# Altium integrated library Silicon Labs Clocks and Oscillators.IntLib: 678 symbols (part 40 of 45)
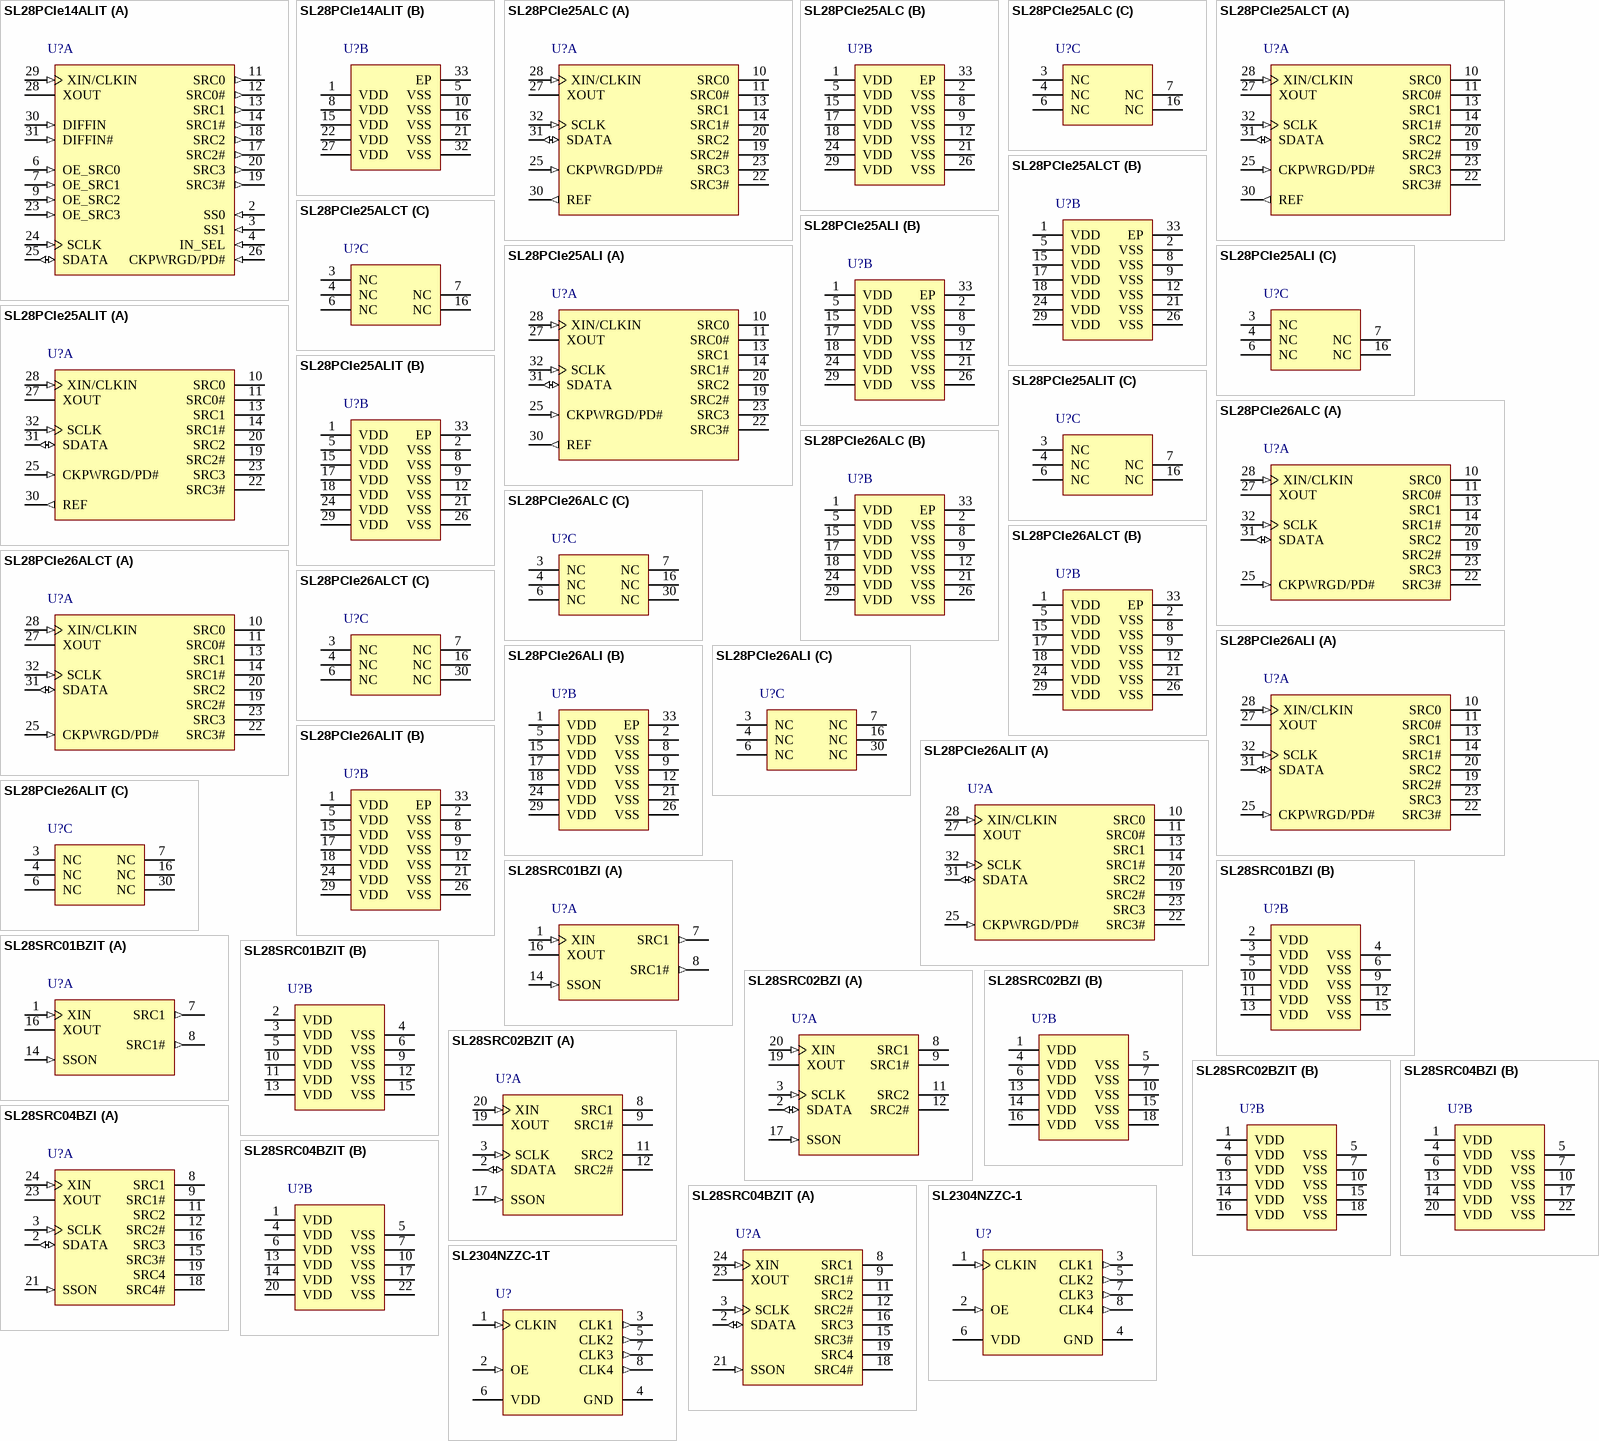
[diagram p83: symbols SL28PCIe14ALIT to SL2304NZZC-1T]

## SL28PCIe26ALI
designator U?
EProClock(R) PCI Express Gen 2 & Gen 3 Generator, 3.3 V, 100 MHz Output, -40 to 85 degC, 32-pin QFN; Manufacturer: Silicon Labs; PartNumber: SL28PCIe26ALI; Output Format: HCSL; Output Frequency (MHz): 100; Reference Inputs: 1; VDD: 3.3 V; Sub-Family: Clock Generators; DatasheetVersion: Rev. AA; PackageReference: QFN-32; PackageDescription: 32-Pin Quad-Flat No-Leads Package, Body 5 x 5 mm, Pitch 0.5 mm; Supplier 1: Digi-Key; Supplier Part Number 1: SL28PCIE26ALI-ND; Supplier 2: Mouser; Supplier Part Number 2: 634-SL28PCIE26ALI; Mounting Technology: Surface Mount; ComponentLink1Description: Manufacturer URL; ComponentLink1URL: http://www.silabs.com/; ComponentLink2Description: Datasheet; ComponentLink2URL: http://www.silabs.com/Support%20Documents/TechnicalDocs/SL28PCIe26.pdf; ComponentLink3Description: Package Specification; ComponentLink3URL: http://www.silabs.com/Support%20Documents/TechnicalDocs/SL28PCIe10.pdf
footprint SLAB-QFN-32-3300x3300TP_B_N (QFN, 32-Leads, Body 5.1x5.1mm, Pitch 0.5mm, Thermal Pad 3.3x3.3mm, IPC Medium Density)
footprint SLAB-QFN-32-3300x3300TP_B_L (QFN, 32-Leads, Body 5.1x5.1mm, Pitch 0.5mm, Thermal Pad 3.3x3.3mm, IPC High Density)
footprint SLAB-QFN-32-3300x3300TP_B_M (QFN, 32-Leads, Body 5.1x5.1mm, Pitch 0.5mm, Thermal Pad 3.3x3.3mm, IPC Low Density)
part A pins: 10 SRC0 (hiz) "100MHz True differential serial reference clock", 11 SRC0# (hiz) "100MHz Complement differential serial reference clock", 13 SRC1 (hiz) "100MHz True differential serial reference clock", 14 SRC1# (hiz) "100MHz Complement differential serial reference clock", 19 SRC2# (hiz) "100MHz Complement differential serial reference clock", 20 SRC2 (hiz) "100MHz True differential serial reference clock", 22 SRC3# (hiz) "100MHz Complement differential serial reference clock", 23 SRC3 (hiz) "100MHz True differential serial reference clock", 25 CKPWRGD/PD# (in) "3.3V LVTTT input pin. When PD# is asserted low, the device will power down.", 27 XOUT "25MHz Crystal output, Float XOUT if using CLKIN (Clock Input)", 28 XIN/CLKIN (in) "25MHz Crystal input or 3.3V, 25MHz Clock Input", 31 SDATA (io) "SMBus compatible SDATA", 32 SCLK (in) "SMBus compatible SCLOCK"
part B pins: 1 VDD (power) "3.3V Power Supply", 2 VSS (power) "Ground", 5 VDD (power) "3.3V Power Supply", 8 VSS (power) "Ground", 9 VSS (power) "Ground", 12 VSS (power) "Ground", 15 VDD (power) "3.3V Power Supply", 17 VDD (power) "3.3V Power Supply", 18 VDD (power) "3.3V Power Supply", 21 VSS (power) "Ground", 24 VDD (power) "3.3V Power Supply", 26 VSS (power) "Ground", 29 VDD (power) "3.3V Power Supply", 33 EP
part C pins: 3 NC "No Connect.", 4 NC "No Connect.", 6 NC "No Connect.", 7 NC "No Connect.", 16 NC "No Connect.", 30 NC "No Connect."

## SL28PCIe26ALIT
designator U?
EProClock(R) PCI Express Gen 2 & Gen 3 Generator, 3.3 V, 100 MHz Output, -40 to 85 degC, 32-pin QFN, Tape and Reel; Manufacturer: Silicon Labs; PartNumber: SL28PCIe26ALIT; Output Format: HCSL; Output Frequency (MHz): 100; Phase Jitter (RMS): 3.1 ps; Reference Inputs: 1; VDD: 3.3 V; Sub-Family: Clock Generators; DatasheetVersion: Rev. AA; PackageReference: QFN-32; PackageDescription: 32-Pin Quad-Flat No-Leads Package, Body 5 x 5 mm, Pitch 0.5 mm; Supplier 1: Digi-Key; Supplier Part Number 1: SL28PCIE26ALIT-ND; Supplier 2: Mouser; Supplier Part Number 2: 634-SL28PCIE26ALIT; Packing: Tape and Reel; Mounting Technology: Surface Mount; ComponentLink1Description: Manufacturer URL; ComponentLink1URL: http://www.silabs.com/; ComponentLink2Description: Datasheet; ComponentLink2URL: http://www.silabs.com/Support%20Documents/TechnicalDocs/SL28PCIe26.pdf; ComponentLink3Description: Package Specification; ComponentLink3URL: http://www.silabs.com/Support%20Documents/TechnicalDocs/SL28PCIe10.pdf
footprint SLAB-QFN-32-3300x3300TP_B_N (QFN, 32-Leads, Body 5.1x5.1mm, Pitch 0.5mm, Thermal Pad 3.3x3.3mm, IPC Medium Density)
footprint SLAB-QFN-32-3300x3300TP_B_L (QFN, 32-Leads, Body 5.1x5.1mm, Pitch 0.5mm, Thermal Pad 3.3x3.3mm, IPC High Density)
footprint SLAB-QFN-32-3300x3300TP_B_M (QFN, 32-Leads, Body 5.1x5.1mm, Pitch 0.5mm, Thermal Pad 3.3x3.3mm, IPC Low Density)
part A pins: 10 SRC0 (hiz) "100MHz True differential serial reference clock", 11 SRC0# (hiz) "100MHz Complement differential serial reference clock", 13 SRC1 (hiz) "100MHz True differential serial reference clock", 14 SRC1# (hiz) "100MHz Complement differential serial reference clock", 19 SRC2# (hiz) "100MHz Complement differential serial reference clock", 20 SRC2 (hiz) "100MHz True differential serial reference clock", 22 SRC3# (hiz) "100MHz Complement differential serial reference clock", 23 SRC3 (hiz) "100MHz True differential serial reference clock", 25 CKPWRGD/PD# (in) "3.3V LVTTT input pin. When PD# is asserted low, the device will power down.", 27 XOUT "25MHz Crystal output, Float XOUT if using CLKIN (Clock Input)", 28 XIN/CLKIN (in) "25MHz Crystal input or 3.3V, 25MHz Clock Input", 31 SDATA (io) "SMBus compatible SDATA", 32 SCLK (in) "SMBus compatible SCLOCK"
part B pins: 1 VDD (power) "3.3V Power Supply", 2 VSS (power) "Ground", 5 VDD (power) "3.3V Power Supply", 8 VSS (power) "Ground", 9 VSS (power) "Ground", 12 VSS (power) "Ground", 15 VDD (power) "3.3V Power Supply", 17 VDD (power) "3.3V Power Supply", 18 VDD (power) "3.3V Power Supply", 21 VSS (power) "Ground", 24 VDD (power) "3.3V Power Supply", 26 VSS (power) "Ground", 29 VDD (power) "3.3V Power Supply", 33 EP
part C pins: 3 NC "No Connect.", 4 NC "No Connect.", 6 NC "No Connect.", 7 NC "No Connect.", 16 NC "No Connect.", 30 NC "No Connect."

## SL28SRC01BZI
designator U?
PCI Express Gen 2 & Gen 3 Clock Generator, 3.3 V, 100 MHz Output, -40 to 85 degC, 16-pin SOP; Manufacturer: Silicon Labs; PartNumber: SL28SRC01BZI; Output Format: HCSL; Output Frequency (MHz): 100; Reference Inputs: 1; VDD: 3.3 V; Sub-Family: Clock Generators; DatasheetVersion: Rev. AA; PackageReference: TSSOP-16; PackageDescription: 16-Pin Thin Shrink Small-Outline Package, Body 5 x 4.4 mm, Pitch 0.65 mm; Supplier 1: Digi-Key; Supplier Part Number 1: SL28SRC01BZI-ND; Supplier 2: Mouser; Supplier Part Number 2: 634-SL28SRC01BZI; Mounting Technology: Surface Mount; Code_JEDEC: MO-153; Code_IPC: J-STD-020C; ComponentLink1Description: Manufacturer URL; ComponentLink1URL: http://www.silabs.com/; ComponentLink2Description: Datasheet; ComponentLink2URL: http://www.silabs.com/Support%20Documents/TechnicalDocs/SL28SRC01.pdf; ComponentLink3Description: Package Specification; ComponentLink3URL: http://www.silabs.com/Support%20Documents/TechnicalDocs/Si53360.pdf
footprint SLAB-TSSOP-16_N (SOP, 16-Leads, Body 5.1x4.5mm, Pitch 0.65mm, IPC Medium Density)
footprint SLAB-TSSOP-16_L (SOP, 16-Leads, Body 5.1x4.5mm, Pitch 0.65mm, IPC High Density)
footprint SLAB-TSSOP-16_M (SOP, 16-Leads, Body 5.1x4.5mm, Pitch 0.65mm, IPC Low Density)
part A pins: 1 XIN (in) "14.318 MHz Crystal input.", 7 SRC1 (out) "100 MHz Differential serial reference clocks.", 8 SRC1# (out) "100 MHz Differential serial reference clocks.", 14 SSON (in) "3.3V LVTTL input for enabling spread spectrum clock 0 = Disable, 1 = Enable (-0.5% SS) Extrenal 10K ohm pull-up or pull-down resistor required", 16 XOUT "14.318 MHz Crystal output."
part B pins: 2 VDD (power) "3.3V power supply", 3 VDD (power) "3.3V power supply", 4 VSS (power) "Ground", 5 VDD (power) "3.3V power supply", 6 VSS (power) "Ground", 9 VSS (power) "Ground", 10 VDD (power) "3.3V power supply", 11 VDD (power) "3.3V power supply", 12 VSS (power) "Ground", 13 VDD (power) "3.3V power supply", 15 VSS (power) "Ground"

## SL28SRC01BZIT
designator U?
PCI Express Gen 2 & Gen 3 Clock Generator, 3.3 V, 100 MHz Output, -40 to 85 degC, 16-pin SOP, Tape and Reel; Manufacturer: Silicon Labs; PartNumber: SL28SRC01BZIT; Output Format: HCSL; Output Frequency (MHz): 100; Phase Jitter (RMS): 1 ps; Reference Inputs: 1; VDD: 3.3 V; Sub-Family: Clock Generators; DatasheetVersion: Rev. AA; PackageReference: TSSOP-16; PackageDescription: 16-Pin Thin Shrink Small-Outline Package, Body 5 x 4.4 mm, Pitch 0.65 mm; Supplier 1: Digi-Key; Supplier Part Number 1: SL28SRC01BZIT-ND; Supplier 2: Mouser; Supplier Part Number 2: 634-SL28SRC01BZIT; Packing: Tape and Reel; Mounting Technology: Surface Mount; Code_JEDEC: MO-153; Code_IPC: J-STD-020C; ComponentLink1Description: Manufacturer URL; ComponentLink1URL: http://www.silabs.com/; ComponentLink2Description: Datasheet; ComponentLink2URL: http://www.silabs.com/Support%20Documents/TechnicalDocs/SL28SRC01.pdf; ComponentLink3Description: Package Specification; ComponentLink3URL: http://www.silabs.com/Support%20Documents/TechnicalDocs/Si53360.pdf
footprint SLAB-TSSOP-16_N (SOP, 16-Leads, Body 5.1x4.5mm, Pitch 0.65mm, IPC Medium Density)
footprint SLAB-TSSOP-16_L (SOP, 16-Leads, Body 5.1x4.5mm, Pitch 0.65mm, IPC High Density)
footprint SLAB-TSSOP-16_M (SOP, 16-Leads, Body 5.1x4.5mm, Pitch 0.65mm, IPC Low Density)
part A pins: 1 XIN (in) "14.318 MHz Crystal input.", 7 SRC1 (out) "100 MHz Differential serial reference clocks.", 8 SRC1# (out) "100 MHz Differential serial reference clocks.", 14 SSON (in) "3.3V LVTTL input for enabling spread spectrum clock 0 = Disable, 1 = Enable (-0.5% SS) Extrenal 10K ohm pull-up or pull-down resistor required", 16 XOUT "14.318 MHz Crystal output."
part B pins: 2 VDD (power) "3.3V power supply", 3 VDD (power) "3.3V power supply", 4 VSS (power) "Ground", 5 VDD (power) "3.3V power supply", 6 VSS (power) "Ground", 9 VSS (power) "Ground", 10 VDD (power) "3.3V power supply", 11 VDD (power) "3.3V power supply", 12 VSS (power) "Ground", 13 VDD (power) "3.3V power supply", 15 VSS (power) "Ground"

## SL28SRC02BZI
designator U?
PCI Express Gen 2 & Gen 3 Clock Generator, 3.3 V, 100 MHz Output, -40 to 85 degC, 20-pin SOP; Manufacturer: Silicon Labs; PartNumber: SL28SRC02BZI; Output Format: HCSL; Output Frequency (MHz): 100; Reference Inputs: 1; VDD: 3.3 V; Sub-Family: Clock Generators; DatasheetVersion: Rev. 1.1; PackageReference: TSSOP-20; PackageDescription: 20-Pin Thin Shrink Small-Outline Package, Body 6.5 x 4.4 mm, Pitch 0.65 mm; Supplier 1: Digi-Key; Supplier Part Number 1: SL28SRC02BZI-ND; Supplier 2: Mouser; Supplier Part Number 2: 634-SL28SRC02BZI; Mounting Technology: Surface Mount; Code_JEDEC: MO-153; ComponentLink1Description: Manufacturer URL; ComponentLink1URL: http://www.silabs.com/; ComponentLink2Description: Datasheet; ComponentLink2URL: http://www.silabs.com/Support%20Documents/TechnicalDocs/SL28SRC02.pdf; ComponentLink3Description: Package Specification; ComponentLink3URL: http://www.silabs.com/Support%20Documents/TechnicalDocs/SL28SRC02.pdf
footprint SLAB-TSSOP-20_A_N (SOP, 20-Leads, Body 6.6x4.5mm, Pitch 0.65mm, IPC Medium Density)
footprint SLAB-TSSOP-20_A_L (SOP, 20-Leads, Body 6.6x4.5mm, Pitch 0.65mm, IPC High Density)
footprint SLAB-TSSOP-20_A_M (SOP, 20-Leads, Body 6.6x4.5mm, Pitch 0.65mm, IPC Low Density)
part A pins: 2 SDATA (io) "SMBus compatible SDATA.", 3 SCLK (in) "SMBus compatible SCLOCK.", 8 SRC1 (hiz) "100 MHz Differential serial reference clocks.", 9 SRC1# (hiz) "100 MHz Differential serial reference clocks.", 11 SRC2 (hiz) "100 MHz Differential serial reference clocks.", 12 SRC2# (hiz) "100 MHz Differential serial reference clocks.", 17 SSON (in) "3.3V LVTTL input for enabling spread spectrum clock 0 = Disable, 1 = Enable (-0.5% SS) External 10K ohm pull-up or pull-down resistor required", 19 XOUT "14.318 MHz Crystal output.", 20 XIN (in) "14.318 MHz Crystal input."
part B pins: 1 VDD (power) "3.3V Power supply", 4 VDD (power) "3.3V power supply", 5 VSS (power) "Ground", 6 VDD (power) "3.3V power supply", 7 VSS (power) "Ground", 10 VSS (power) "Ground", 13 VDD (power) "3.3V power supply", 14 VDD (power) "3.3V power supply", 15 VSS (power) "Ground", 16 VDD (power) "3.3V power supply", 18 VSS (power) "Ground"

## SL28SRC02BZIT
designator U?
PCI Express Gen 2 & Gen 3 Clock Generator, 3.3 V, 100 MHz Output, -40 to 85 degC, 20-pin SOP, Tape and Reel; Manufacturer: Silicon Labs; PartNumber: SL28SRC02BZIT; Output Format: HCSL; Output Frequency (MHz): 100; Phase Jitter (RMS): 1 ps; Reference Inputs: 1; VDD: 3.3 V; Sub-Family: Clock Generators; DatasheetVersion: Rev. 1.1; PackageReference: TSSOP-20; PackageDescription: 20-Pin Thin Shrink Small-Outline Package, Body 6.5 x 4.4 mm, Pitch 0.65 mm; Supplier 1: Digi-Key; Supplier Part Number 1: SL28SRC02BZIT-ND; Supplier 2: Mouser; Supplier Part Number 2: 634-SL28SRC02BZIT; Packing: Tape and Reel; Mounting Technology: Surface Mount; Code_JEDEC: MO-153; ComponentLink1Description: Manufacturer URL; ComponentLink1URL: http://www.silabs.com/; ComponentLink2Description: Datasheet; ComponentLink2URL: http://www.silabs.com/Support%20Documents/TechnicalDocs/SL28SRC02.pdf; ComponentLink3Description: Package Specification; ComponentLink3URL: http://www.silabs.com/Support%20Documents/TechnicalDocs/SL28SRC02.pdf
footprint SLAB-TSSOP-20_A_N (SOP, 20-Leads, Body 6.6x4.5mm, Pitch 0.65mm, IPC Medium Density)
footprint SLAB-TSSOP-20_A_L (SOP, 20-Leads, Body 6.6x4.5mm, Pitch 0.65mm, IPC High Density)
footprint SLAB-TSSOP-20_A_M (SOP, 20-Leads, Body 6.6x4.5mm, Pitch 0.65mm, IPC Low Density)
part A pins: 2 SDATA (io) "SMBus compatible SDATA.", 3 SCLK (in) "SMBus compatible SCLOCK.", 8 SRC1 (hiz) "100 MHz Differential serial reference clocks.", 9 SRC1# (hiz) "100 MHz Differential serial reference clocks.", 11 SRC2 (hiz) "100 MHz Differential serial reference clocks.", 12 SRC2# (hiz) "100 MHz Differential serial reference clocks.", 17 SSON (in) "3.3V LVTTL input for enabling spread spectrum clock 0 = Disable, 1 = Enable (-0.5% SS) External 10K ohm pull-up or pull-down resistor required", 19 XOUT "14.318 MHz Crystal output.", 20 XIN (in) "14.318 MHz Crystal input."
part B pins: 1 VDD (power) "3.3V Power supply", 4 VDD (power) "3.3V power supply", 5 VSS (power) "Ground", 6 VDD (power) "3.3V power supply", 7 VSS (power) "Ground", 10 VSS (power) "Ground", 13 VDD (power) "3.3V power supply", 14 VDD (power) "3.3V power supply", 15 VSS (power) "Ground", 16 VDD (power) "3.3V power supply", 18 VSS (power) "Ground"

## SL28SRC04BZI
designator U?
PCI Express Gen 2 & Gen 3 Clock Generator, 3.3 V, 100 MHz Output, -40 to 85 degC, 24-pin SOP; Manufacturer: Silicon Labs; PartNumber: SL28SRC04BZI; Output Format: HCSL; Output Frequency (MHz): 100; Reference Inputs: 1; VDD: 3.3 V; Sub-Family: Clock Generators; DatasheetVersion: Rev. AA; PackageReference: TSSOP-24; PackageDescription: 24-Pin Thin Shrink Small-Outline Package, Body 7.8 x 4.4 mm, Pitch 0.65 mm; Supplier 1: Digi-Key; Supplier Part Number 1: SL28SRC04BZI-ND; Supplier 2: Mouser; Supplier Part Number 2: 634-SL28SRC04BZI; Mounting Technology: Surface Mount; Code_JEDEC: MO-153; Code_IPC: J-STD-020; ComponentLink1Description: Manufacturer URL; ComponentLink1URL: http://www.silabs.com/; ComponentLink2Description: Datasheet; ComponentLink2URL: http://www.silabs.com/Support%20Documents/TechnicalDocs/SL28SRC04.pdf; ComponentLink3Description: Package Specification; ComponentLink3URL: http://www.silabs.com/Support%20Documents/TechnicalDocs/Si2457-34-15-04D.pdf
footprint SLAB-TSSOP-24_N (SOP, 24-Leads, Body 7.9x4.5mm, Pitch 0.65mm, IPC Medium Density)
footprint SLAB-TSSOP-24_L (SOP, 24-Leads, Body 7.9x4.5mm, Pitch 0.65mm, IPC High Density)
footprint SLAB-TSSOP-24_M (SOP, 24-Leads, Body 7.9x4.5mm, Pitch 0.65mm, IPC Low Density)
part A pins: 2 SDATA (io) "SMBus compatible SDATA.", 3 SCLK (in) "SMBus compatible SCLOCK.", 8 SRC1 (hiz) "100 MHz Differential serial reference clocks.", 9 SRC1# (hiz) "100 MHz Differential serial reference clocks.", 11 SRC2 (hiz) "100 MHz Differential serial reference clocks.", 12 SRC2# (hiz) "100 MHz Differential serial reference clocks.", 15 SRC3# (hiz) "100 MHz Differential serial reference clocks.", 16 SRC3 (hiz) "100 MHz Differential serial reference clocks.", 18 SRC4# (hiz) "100 MHz Differential serial reference clocks.", 19 SRC4 (hiz) "100 MHz Differential serial reference clocks.", 21 SSON (in) "3.3V LVTTL input for enabling spread spectrum clock 0 = Disable, 1 = Enable (-0.5% SS) External 10K ohm pull-up or pull-down resistor required", 23 XOUT "14.318 MHz Crystal output.", 24 XIN (in) "14.318 MHz Crystal input."
part B pins: 1 VDD (power) "3.3V Power supply", 4 VDD (power) "3.3V power supply", 5 VSS (power) "Ground", 6 VDD (power) "3.3V power supply", 7 VSS (power) "Ground", 10 VSS (power) "Ground", 13 VDD (power) "3.3V power supply", 14 VDD (power) "3.3V power supply", 17 VSS (power) "Ground", 20 VDD (power) "3.3V power supply", 22 VSS (power) "Ground"

## SL28SRC04BZIT
designator U?
PCI Express Gen 2 & Gen 3 Clock Generator, 3.3 V, 100 MHz Output, -40 to 85 degC, 24-pin SOP, Tape and Reel; Manufacturer: Silicon Labs; PartNumber: SL28SRC04BZIT; Output Format: HCSL; Output Frequency (MHz): 100; Phase Jitter (RMS): 1 ps; Reference Inputs: 1; VDD: 3.3 V; Sub-Family: Clock Generators; DatasheetVersion: Rev. AA; PackageReference: TSSOP-24; PackageDescription: 24-Pin Thin Shrink Small-Outline Package, Body 7.8 x 4.4 mm, Pitch 0.65 mm; Supplier 1: Digi-Key; Supplier Part Number 1: SL28SRC04BZIT-ND; Supplier 2: Mouser; Supplier Part Number 2: 634-SL28SRC04BZIT; Packing: Tape and Reel; Mounting Technology: Surface Mount; Code_JEDEC: MO-153; Code_IPC: J-STD-020; ComponentLink1Description: Manufacturer URL; ComponentLink1URL: http://www.silabs.com/; ComponentLink2Description: Datasheet; ComponentLink2URL: http://www.silabs.com/Support%20Documents/TechnicalDocs/SL28SRC04.pdf; ComponentLink3Description: Package Specification; ComponentLink3URL: http://www.silabs.com/Support%20Documents/TechnicalDocs/Si2457-34-15-04D.pdf
footprint SLAB-TSSOP-24_N (SOP, 24-Leads, Body 7.9x4.5mm, Pitch 0.65mm, IPC Medium Density)
footprint SLAB-TSSOP-24_L (SOP, 24-Leads, Body 7.9x4.5mm, Pitch 0.65mm, IPC High Density)
footprint SLAB-TSSOP-24_M (SOP, 24-Leads, Body 7.9x4.5mm, Pitch 0.65mm, IPC Low Density)
part A pins: 2 SDATA (io) "SMBus compatible SDATA.", 3 SCLK (in) "SMBus compatible SCLOCK.", 8 SRC1 (hiz) "100 MHz Differential serial reference clocks.", 9 SRC1# (hiz) "100 MHz Differential serial reference clocks.", 11 SRC2 (hiz) "100 MHz Differential serial reference clocks.", 12 SRC2# (hiz) "100 MHz Differential serial reference clocks.", 15 SRC3# (hiz) "100 MHz Differential serial reference clocks.", 16 SRC3 (hiz) "100 MHz Differential serial reference clocks.", 18 SRC4# (hiz) "100 MHz Differential serial reference clocks.", 19 SRC4 (hiz) "100 MHz Differential serial reference clocks.", 21 SSON (in) "3.3V LVTTL input for enabling spread spectrum clock 0 = Disable, 1 = Enable (-0.5% SS) External 10K ohm pull-up or pull-down resistor required", 23 XOUT "14.318 MHz Crystal output.", 24 XIN (in) "14.318 MHz Crystal input."
part B pins: 1 VDD (power) "3.3V Power supply", 4 VDD (power) "3.3V power supply", 5 VSS (power) "Ground", 6 VDD (power) "3.3V power supply", 7 VSS (power) "Ground", 10 VSS (power) "Ground", 13 VDD (power) "3.3V power supply", 14 VDD (power) "3.3V power supply", 17 VSS (power) "Ground", 20 VDD (power) "3.3V power supply", 22 VSS (power) "Ground"

## SL2304NZZC-1
designator U?
Low Jitter and Skew Clock Buffer, DC to 144 MHz, 0 to 70 degC, 8-pin SOP, Tube; Manufacturer: Silicon Labs; PartNumber: SL2304NZZC-1; Frequency (MHz): DC to 140; Output Format: LVCMOS; Sub-Family: Clock Buffers; DatasheetVersion: Rev. 2.1; PackageReference: TSSOP-8; PackageDescription: 8-Pin Thin Shrink Small-Outline Package, Body 4.4 x 3 mm, Pitch 0.65 mm; Supplier 1: Digi-Key; Supplier Part Number 1: SL2304NZZC-1-ND; Supplier 2: Mouser; Supplier Part Number 2: 634-SL2304NZZC-1; Packing: Tube; Mounting Technology: Surface Mount; ComponentLink1Description: Manufacturer URL; ComponentLink1URL: http://www.silabs.com/; ComponentLink2Description: Datasheet; ComponentLink2URL: http://www.silabs.com/Support%20Documents/TechnicalDocs/SL2304NZ.pdf; ComponentLink3Description: Package Specification; ComponentLink3URL: http://www.silabs.com/Support%20Documents/TechnicalDocs/SL2304NZ.pdf
footprint SLAB-TSSOP-8_N (SOP, 8-Leads, Body 4.5x3.1mm, Pitch 0.65mm, IPC Medium Density)
footprint SLAB-TSSOP-8_L (SOP, 8-Leads, Body 4.5x3.1mm, Pitch 0.65mm, IPC High Density)
footprint SLAB-TSSOP-8_M (SOP, 8-Leads, Body 4.5x3.1mm, Pitch 0.65mm, IPC Low Density)
pins: 1 CLKIN (in) "Reference Clock Input", 2 OE (in) "Output Enable. Refer to the Table. 1 for Logic Table", 3 CLK1 (out) "Buffered Clock Output 1", 4 GND (power) "Power Ground.", 5 CLK2 (out) "Buffered Clock Output 2", 6 VDD (power), 7 CLK3 (out) "Buffered Clock Output 3", 8 CLK4 (out) "Buffered Clock Output 4"

## SL2304NZZC-1T
designator U?
Low Jitter and Skew Clock Buffer, DC to 144 MHz, 0 to 70 degC, 8-pin SOP, Tape and Reel; Manufacturer: Silicon Labs; PartNumber: SL2304NZZC-1T; Frequency (MHz): DC to 140; Output Format: LVCMOS; Sub-Family: Clock Buffers; DatasheetVersion: Rev. 2.1; PackageReference: TSSOP-8; PackageDescription: 8-Pin Thin Shrink Small-Outline Package, Body 4.4 x 3 mm, Pitch 0.65 mm; Supplier 1: Digi-Key; Supplier Part Number 1: SL2304NZZC-1T-ND; Supplier 2: Mouser; Supplier Part Number 2: 634-SL2304NZZC-1T; Packing: Tape and Reel; Mounting Technology: Surface Mount; ComponentLink1Description: Manufacturer URL; ComponentLink1URL: http://www.silabs.com/; ComponentLink2Description: Datasheet; ComponentLink2URL: http://www.silabs.com/Support%20Documents/TechnicalDocs/SL2304NZ.pdf; ComponentLink3Description: Package Specification; ComponentLink3URL: http://www.silabs.com/Support%20Documents/TechnicalDocs/SL2304NZ.pdf
footprint SLAB-TSSOP-8_N (SOP, 8-Leads, Body 4.5x3.1mm, Pitch 0.65mm, IPC Medium Density)
footprint SLAB-TSSOP-8_L (SOP, 8-Leads, Body 4.5x3.1mm, Pitch 0.65mm, IPC High Density)
footprint SLAB-TSSOP-8_M (SOP, 8-Leads, Body 4.5x3.1mm, Pitch 0.65mm, IPC Low Density)
pins: 1 CLKIN (in) "Reference Clock Input", 2 OE (in) "Output Enable. Refer to the Table. 1 for Logic Table", 3 CLK1 (out) "Buffered Clock Output 1", 4 GND (power) "Power Ground.", 5 CLK2 (out) "Buffered Clock Output 2", 6 VDD (power), 7 CLK3 (out) "Buffered Clock Output 3", 8 CLK4 (out) "Buffered Clock Output 4"

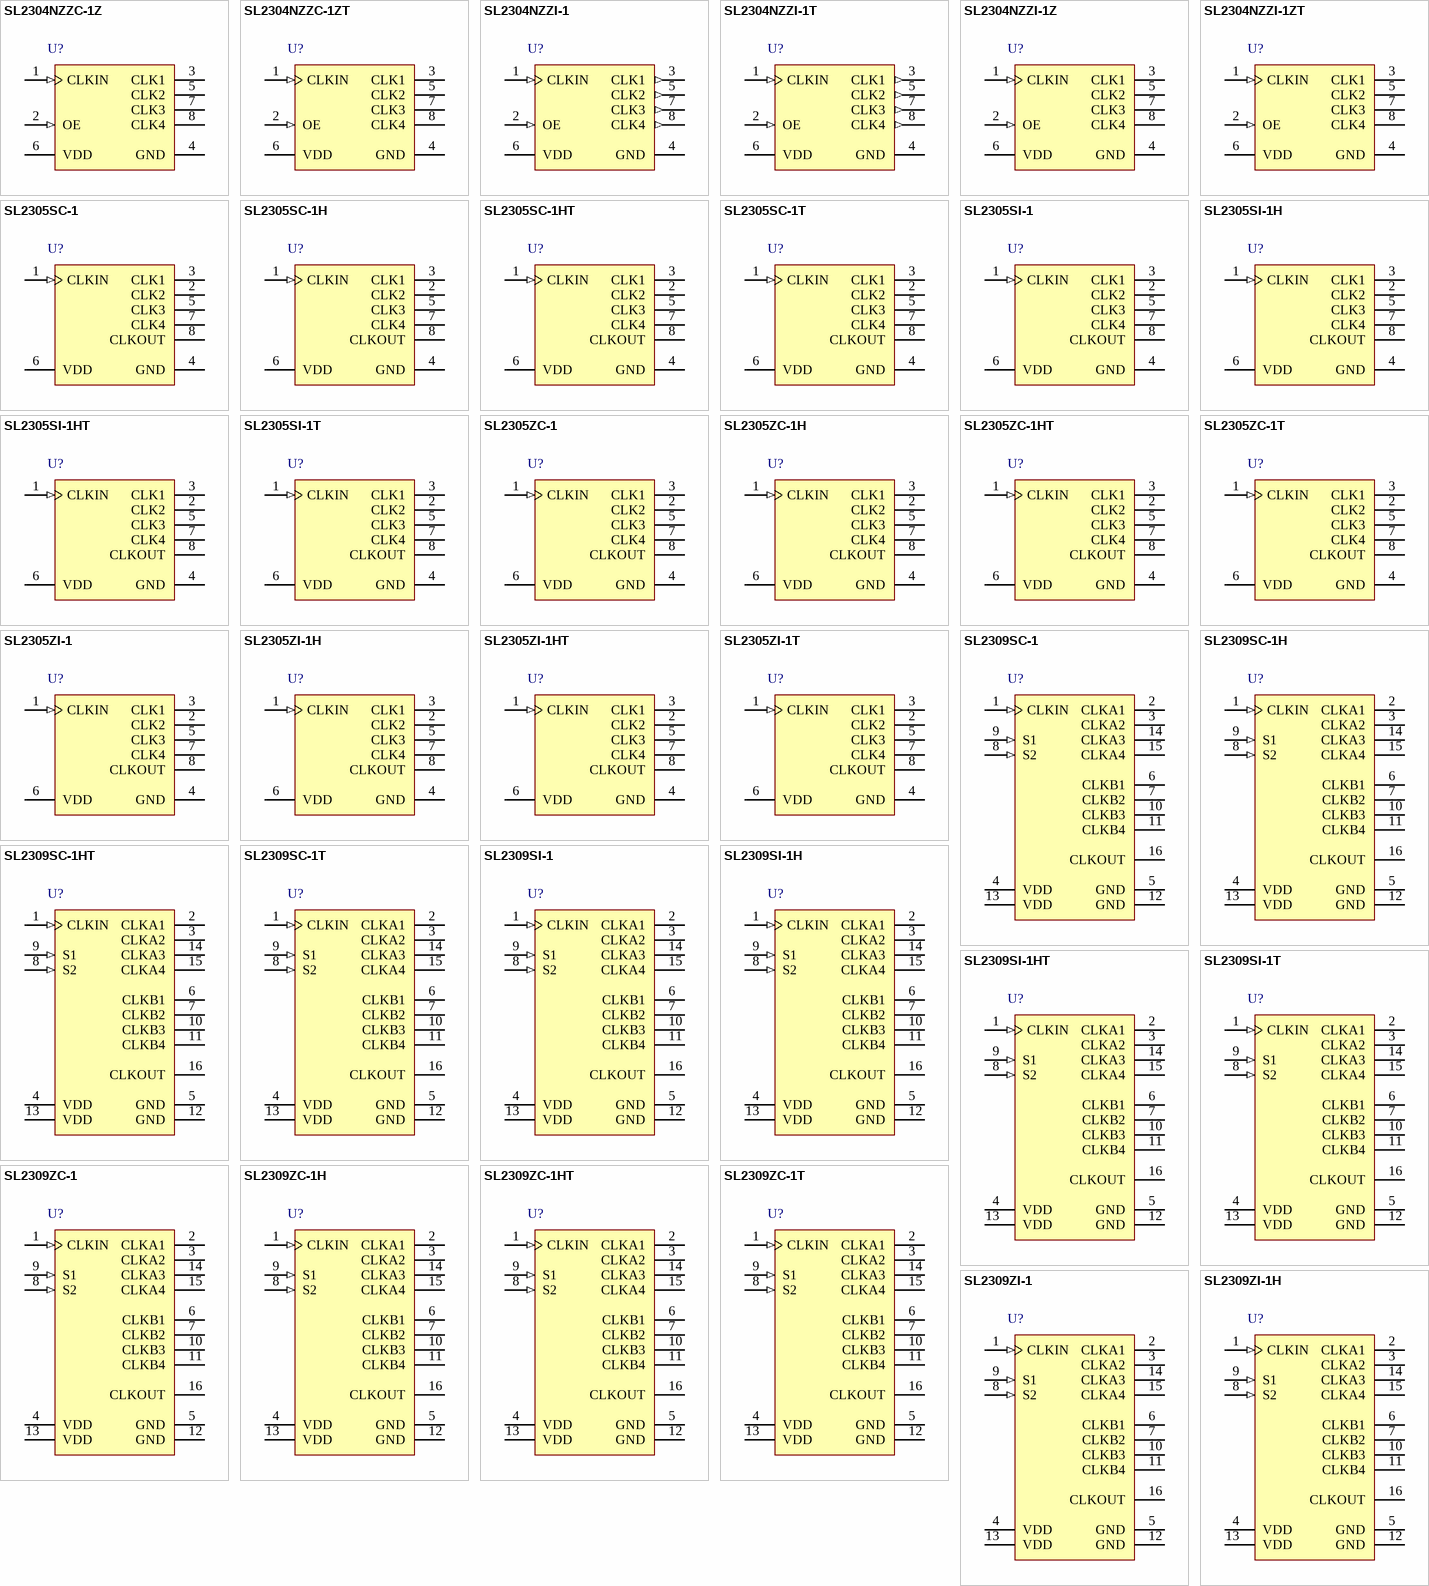
[diagram p39: symbols SL2304NZZC-1Z to SL2309ZI-1H]

## SL2304NZZC-1Z
designator U?
Low Jitter and Skew Clock Buffer, DC to 144 MHz, 0 to 70 degC, 8-pin SOP, Tube; Manufacturer: Silicon Labs; PartNumber: SL2304NZZC-1Z; Frequency (MHz): DC to 140; Output Format: LVCMOS; Sub-Family: Clock Buffers; DatasheetVersion: Rev. 2.1; PackageReference: TSSOP-8; PackageDescription: 8-Pin Thin Shrink Small-Outline Package, Body 4.4 x 3 mm, Pitch 0.65 mm; Supplier 1: Digi-Key; Supplier Part Number 1: SL2304NZZC-1Z-ND; Supplier 2: Mouser; Supplier Part Number 2: 634-SL2304NZZC-1Z; Packing: Tube; Mounting Technology: Surface Mount; ComponentLink1Description: Manufacturer URL; ComponentLink1URL: http://www.silabs.com/; ComponentLink2Description: Datasheet; ComponentLink2URL: http://www.silabs.com/Support%20Documents/TechnicalDocs/SL2304NZ.pdf; ComponentLink3Description: Package Specification; ComponentLink3URL: http://www.silabs.com/Support%20Documents/TechnicalDocs/SL2304NZ.pdf
footprint SLAB-TSSOP-8_N (SOP, 8-Leads, Body 4.5x3.1mm, Pitch 0.65mm, IPC Medium Density)
footprint SLAB-TSSOP-8_L (SOP, 8-Leads, Body 4.5x3.1mm, Pitch 0.65mm, IPC High Density)
footprint SLAB-TSSOP-8_M (SOP, 8-Leads, Body 4.5x3.1mm, Pitch 0.65mm, IPC Low Density)
pins: 1 CLKIN (in) "Reference Clock Input", 2 OE (in) "Output Enable. Refer to the Table. 1 for Logic Table", 3 CLK1 (hiz) "Buffered Clock Output 1", 4 GND (power) "Power Ground.", 5 CLK2 (hiz) "Buffered Clock Output 2", 6 VDD (power), 7 CLK3 (hiz) "Buffered Clock Output 3", 8 CLK4 (hiz) "Buffered Clock Output 4"

## SL2304NZZC-1ZT
designator U?
Low Jitter and Skew Clock Buffer, DC to 144 MHz, 0 to 70 degC, 8-pin SOP, Tape and Reel; Manufacturer: Silicon Labs; PartNumber: SL2304NZZC-1ZT; Frequency (MHz): DC to 140; Output Format: LVCMOS; Sub-Family: Clock Buffers; DatasheetVersion: Rev. 2.1; PackageReference: TSSOP-8; PackageDescription: 8-Pin Thin Shrink Small-Outline Package, Body 4.4 x 3 mm, Pitch 0.65 mm; Supplier 1: Digi-Key; Supplier Part Number 1: SL2304NZZC-1ZT-ND; Supplier 2: Mouser; Supplier Part Number 2: 634-SL2304NZZC-1ZT; Packing: Tape and Reel; Mounting Technology: Surface Mount; ComponentLink1Description: Manufacturer URL; ComponentLink1URL: http://www.silabs.com/; ComponentLink2Description: Datasheet; ComponentLink2URL: http://www.silabs.com/Support%20Documents/TechnicalDocs/SL2304NZ.pdf; ComponentLink3Description: Package Specification; ComponentLink3URL: http://www.silabs.com/Support%20Documents/TechnicalDocs/SL2304NZ.pdf
footprint SLAB-TSSOP-8_N (SOP, 8-Leads, Body 4.5x3.1mm, Pitch 0.65mm, IPC Medium Density)
footprint SLAB-TSSOP-8_L (SOP, 8-Leads, Body 4.5x3.1mm, Pitch 0.65mm, IPC High Density)
footprint SLAB-TSSOP-8_M (SOP, 8-Leads, Body 4.5x3.1mm, Pitch 0.65mm, IPC Low Density)
pins: 1 CLKIN (in) "Reference Clock Input", 2 OE (in) "Output Enable. Refer to the Table. 1 for Logic Table", 3 CLK1 (hiz) "Buffered Clock Output 1", 4 GND (power) "Power Ground.", 5 CLK2 (hiz) "Buffered Clock Output 2", 6 VDD (power), 7 CLK3 (hiz) "Buffered Clock Output 3", 8 CLK4 (hiz) "Buffered Clock Output 4"

## SL2304NZZI-1
designator U?
Low Jitter and Skew Clock Buffer, DC to 144 MHz, -40 to 85 degC, 8-pin SOP, Tube; Manufacturer: Silicon Labs; PartNumber: SL2304NZZI-1; Frequency (MHz): DC to 140; Output Format: LVCMOS; Sub-Family: Clock Buffers; DatasheetVersion: Rev. 2.1; PackageReference: TSSOP-8; PackageDescription: 8-Pin Thin Shrink Small-Outline Package, Body 4.4 x 3 mm, Pitch 0.65 mm; Supplier 1: Digi-Key; Supplier Part Number 1: SL2304NZZI-1-ND; Supplier 2: Mouser; Supplier Part Number 2: 634-SL2304NZZI-1; Packing: Tube; Mounting Technology: Surface Mount; ComponentLink1Description: Manufacturer URL; ComponentLink1URL: http://www.silabs.com/; ComponentLink2Description: Datasheet; ComponentLink2URL: http://www.silabs.com/Support%20Documents/TechnicalDocs/SL2304NZ.pdf; ComponentLink3Description: Package Specification; ComponentLink3URL: http://www.silabs.com/Support%20Documents/TechnicalDocs/SL2304NZ.pdf
footprint SLAB-TSSOP-8_N (SOP, 8-Leads, Body 4.5x3.1mm, Pitch 0.65mm, IPC Medium Density)
footprint SLAB-TSSOP-8_L (SOP, 8-Leads, Body 4.5x3.1mm, Pitch 0.65mm, IPC High Density)
footprint SLAB-TSSOP-8_M (SOP, 8-Leads, Body 4.5x3.1mm, Pitch 0.65mm, IPC Low Density)
pins: 1 CLKIN (in) "Reference Clock Input", 2 OE (in) "Output Enable. Refer to the Table. 1 for Logic Table", 3 CLK1 (out) "Buffered Clock Output 1", 4 GND (power) "Power Ground.", 5 CLK2 (out) "Buffered Clock Output 2", 6 VDD (power), 7 CLK3 (out) "Buffered Clock Output 3", 8 CLK4 (out) "Buffered Clock Output 4"

## SL2304NZZI-1T
designator U?
Low Jitter and Skew Clock Buffer, DC to 144 MHz, -40 to 85 degC, 8-pin SOP, Tape and Reel; Manufacturer: Silicon Labs; PartNumber: SL2304NZZI-1T; Frequency (MHz): DC to 140; Output Format: LVCMOS; Sub-Family: Clock Buffers; DatasheetVersion: Rev. 2.1; PackageReference: TSSOP-8; PackageDescription: 8-Pin Thin Shrink Small-Outline Package, Body 4.4 x 3 mm, Pitch 0.65 mm; Supplier 1: Digi-Key; Supplier Part Number 1: SL2304NZZI-1T-ND; Supplier 2: Mouser; Supplier Part Number 2: 634-SL2304NZZI-1T; Packing: Tape and Reel; Mounting Technology: Surface Mount; ComponentLink1Description: Manufacturer URL; ComponentLink1URL: http://www.silabs.com/; ComponentLink2Description: Datasheet; ComponentLink2URL: http://www.silabs.com/Support%20Documents/TechnicalDocs/SL2304NZ.pdf; ComponentLink3Description: Package Specification; ComponentLink3URL: http://www.silabs.com/Support%20Documents/TechnicalDocs/SL2304NZ.pdf
footprint SLAB-TSSOP-8_N (SOP, 8-Leads, Body 4.5x3.1mm, Pitch 0.65mm, IPC Medium Density)
footprint SLAB-TSSOP-8_L (SOP, 8-Leads, Body 4.5x3.1mm, Pitch 0.65mm, IPC High Density)
footprint SLAB-TSSOP-8_M (SOP, 8-Leads, Body 4.5x3.1mm, Pitch 0.65mm, IPC Low Density)
pins: 1 CLKIN (in) "Reference Clock Input", 2 OE (in) "Output Enable. Refer to the Table. 1 for Logic Table", 3 CLK1 (out) "Buffered Clock Output 1", 4 GND (power) "Power Ground.", 5 CLK2 (out) "Buffered Clock Output 2", 6 VDD (power), 7 CLK3 (out) "Buffered Clock Output 3", 8 CLK4 (out) "Buffered Clock Output 4"

## SL2304NZZI-1Z
designator U?
Low Jitter and Skew Clock Buffer, DC to 144 MHz, -40 to 85 degC, 8-pin SOP, Tube; Manufacturer: Silicon Labs; PartNumber: SL2304NZZI-1Z; Frequency (MHz): DC to 140; Output Format: LVCMOS; Sub-Family: Clock Buffers; DatasheetVersion: Rev. 2.1; PackageReference: TSSOP-8; PackageDescription: 8-Pin Thin Shrink Small-Outline Package, Body 4.4 x 3 mm, Pitch 0.65 mm; Supplier 1: Digi-Key; Supplier Part Number 1: SL2304NZZI-1Z-ND; Supplier 2: Mouser; Supplier Part Number 2: 634-SL2304NZZI-1Z; Packing: Tube; Mounting Technology: Surface Mount; ComponentLink1Description: Manufacturer URL; ComponentLink1URL: http://www.silabs.com/; ComponentLink2Description: Datasheet; ComponentLink2URL: http://www.silabs.com/Support%20Documents/TechnicalDocs/SL2304NZ.pdf; ComponentLink3Description: Package Specification; ComponentLink3URL: http://www.silabs.com/Support%20Documents/TechnicalDocs/SL2304NZ.pdf
footprint SLAB-TSSOP-8_N (SOP, 8-Leads, Body 4.5x3.1mm, Pitch 0.65mm, IPC Medium Density)
footprint SLAB-TSSOP-8_L (SOP, 8-Leads, Body 4.5x3.1mm, Pitch 0.65mm, IPC High Density)
footprint SLAB-TSSOP-8_M (SOP, 8-Leads, Body 4.5x3.1mm, Pitch 0.65mm, IPC Low Density)
pins: 1 CLKIN (in) "Reference Clock Input", 2 OE (in) "Output Enable. Refer to the Table. 1 for Logic Table", 3 CLK1 (hiz) "Buffered Clock Output 1", 4 GND (power) "Power Ground.", 5 CLK2 (hiz) "Buffered Clock Output 2", 6 VDD (power), 7 CLK3 (hiz) "Buffered Clock Output 3", 8 CLK4 (hiz) "Buffered Clock Output 4"

## SL2304NZZI-1ZT
designator U?
Low Jitter and Skew Clock Buffer, DC to 144 MHz, -40 to 85 degC, 8-pin SOP, Tape and Reel; Manufacturer: Silicon Labs; PartNumber: SL2304NZZI-1ZT; Frequency (MHz): DC to 140; Output Format: LVCMOS; Sub-Family: Clock Buffers; DatasheetVersion: Rev. 2.1; PackageReference: TSSOP-8; PackageDescription: 8-Pin Thin Shrink Small-Outline Package, Body 4.4 x 3 mm, Pitch 0.65 mm; Supplier 1: Digi-Key; Supplier Part Number 1: SL2304NZZI-1ZT-ND; Supplier 2: Mouser; Supplier Part Number 2: 634-SL2304NZZI-1ZT; Packing: Tape and Reel; Mounting Technology: Surface Mount; ComponentLink1Description: Manufacturer URL; ComponentLink1URL: http://www.silabs.com/; ComponentLink2Description: Datasheet; ComponentLink2URL: http://www.silabs.com/Support%20Documents/TechnicalDocs/SL2304NZ.pdf; ComponentLink3Description: Package Specification; ComponentLink3URL: http://www.silabs.com/Support%20Documents/TechnicalDocs/SL2304NZ.pdf
footprint SLAB-TSSOP-8_N (SOP, 8-Leads, Body 4.5x3.1mm, Pitch 0.65mm, IPC Medium Density)
footprint SLAB-TSSOP-8_L (SOP, 8-Leads, Body 4.5x3.1mm, Pitch 0.65mm, IPC High Density)
footprint SLAB-TSSOP-8_M (SOP, 8-Leads, Body 4.5x3.1mm, Pitch 0.65mm, IPC Low Density)
pins: 1 CLKIN (in) "Reference Clock Input", 2 OE (in) "Output Enable. Refer to the Table. 1 for Logic Table", 3 CLK1 (hiz) "Buffered Clock Output 1", 4 GND (power) "Power Ground.", 5 CLK2 (hiz) "Buffered Clock Output 2", 6 VDD (power), 7 CLK3 (hiz) "Buffered Clock Output 3", 8 CLK4 (hiz) "Buffered Clock Output 4"

## SL2305SC-1
designator U?
Low Jitter and Skew Zero Delay Buffer (ZDB), 10 to 140 MHz, 0 to 70 degC, 8-pin SOIC, Tube; Manufacturer: Silicon Labs; PartNumber: SL2305SC-1; Output Format: LVCMOS; Sub-Family: Clock Buffers; DatasheetVersion: Rev. 2.1; PackageReference: SOIC-8; PackageDescription: 8-Pin Small-Outline Integrated Circuit, Body 4.9 x 3.9 mm, Pitch 1.27 mm; Supplier 1: Digi-Key; Supplier Part Number 1: SL2305SC-1-ND; Supplier 2: Mouser; Supplier Part Number 2: 634-SL2305SC-1; Frequency (MHz): 10 to 140; Packing: Tube; Mounting Technology: Surface Mount; ComponentLink1Description: Manufacturer URL; ComponentLink1URL: http://www.silabs.com/; ComponentLink2Description: Datasheet; ComponentLink2URL: http://www.silabs.com/Support%20Documents/TechnicalDocs/SL2305.pdf; ComponentLink3Description: Package Specification; ComponentLink3URL: http://www.silabs.com/Support%20Documents/TechnicalDocs/SL23EP04.pdf
footprint SLAB-SOIC-8_N (SOIC, 8-Leads, Body 5x4mm, Pitch 1.27mm, IPC Medium Density)
footprint SLAB-SOIC-8_L (SOIC, 8-Leads, Body 5x4mm, Pitch 1.27mm, IPC High Density)
footprint SLAB-SOIC-8_M (SOIC, 8-Leads, Body 5x4mm, Pitch 1.27mm, IPC Low Density)
pins: 1 CLKIN (in) "Reference Frequency Clock Input. Weak pull-down.", 2 CLK2 (hiz) "Buffered Clock Output Weak pull-down.", 3 CLK1 (hiz) "Buffered Clock Output. Weak pull-down.", 4 GND (power) "Power Ground.", 5 CLK3 (hiz) "Buffered Clock Output. Weak pull-down.", 6 VDD (power), 7 CLK4 (hiz) "Buffered Clock Output. Weak pull-down.", 8 CLKOUT (hiz) "Buffered Clock Output, Used for Internal Feedback to PLL Input. Weak pull-down."

## SL2305SC-1H
designator U?
Low Jitter and Skew Zero Delay Buffer (ZDB), 10 to 140 MHz, 0 to 70 degC, 8-pin SOIC, Tube; Manufacturer: Silicon Labs; PartNumber: SL2305SC-1H; Output Format: LVCMOS; Sub-Family: Clock Buffers; DatasheetVersion: Rev. 2.1; PackageReference: SOIC-8; PackageDescription: 8-Pin Small-Outline Integrated Circuit, Body 4.9 x 3.9 mm, Pitch 1.27 mm; Supplier 1: Digi-Key; Supplier Part Number 1: SL2305SC-1H-ND; Supplier 2: Mouser; Supplier Part Number 2: 634-SL2305SC-1H; Frequency (MHz): 10 to 140; Packing: Tube; Mounting Technology: Surface Mount; ComponentLink1Description: Manufacturer URL; ComponentLink1URL: http://www.silabs.com/; ComponentLink2Description: Datasheet; ComponentLink2URL: http://www.silabs.com/Support%20Documents/TechnicalDocs/SL2305.pdf; ComponentLink3Description: Package Specification; ComponentLink3URL: http://www.silabs.com/Support%20Documents/TechnicalDocs/SL23EP04.pdf
footprint SLAB-SOIC-8_N (SOIC, 8-Leads, Body 5x4mm, Pitch 1.27mm, IPC Medium Density)
footprint SLAB-SOIC-8_L (SOIC, 8-Leads, Body 5x4mm, Pitch 1.27mm, IPC High Density)
footprint SLAB-SOIC-8_M (SOIC, 8-Leads, Body 5x4mm, Pitch 1.27mm, IPC Low Density)
pins: 1 CLKIN (in) "Reference Frequency Clock Input. Weak pull-down.", 2 CLK2 (hiz) "Buffered Clock Output Weak pull-down.", 3 CLK1 (hiz) "Buffered Clock Output. Weak pull-down.", 4 GND (power) "Power Ground.", 5 CLK3 (hiz) "Buffered Clock Output. Weak pull-down.", 6 VDD (power), 7 CLK4 (hiz) "Buffered Clock Output. Weak pull-down.", 8 CLKOUT (hiz) "Buffered Clock Output, Used for Internal Feedback to PLL Input. Weak pull-down."

## SL2305SC-1HT
designator U?
Low Jitter and Skew Zero Delay Buffer (ZDB), 10 to 140 MHz, 0 to 70 degC, 8-pin SOIC, Tape and Reel; Manufacturer: Silicon Labs; PartNumber: SL2305SC-1HT; Output Format: LVCMOS; Sub-Family: Clock Buffers; DatasheetVersion: Rev. 2.1; PackageReference: SOIC-8; PackageDescription: 8-Pin Small-Outline Integrated Circuit, Body 4.9 x 3.9 mm, Pitch 1.27 mm; Supplier 1: Digi-Key; Supplier Part Number 1: SL2305SC-1HT-ND; Supplier 2: Mouser; Supplier Part Number 2: 634-SL2305SC-1HT; Frequency (MHz): 10 to 140; Packing: Tape and Reel; Mounting Technology: Surface Mount; ComponentLink1Description: Manufacturer URL; ComponentLink1URL: http://www.silabs.com/; ComponentLink2Description: Datasheet; ComponentLink2URL: http://www.silabs.com/Support%20Documents/TechnicalDocs/SL2305.pdf; ComponentLink3Description: Package Specification; ComponentLink3URL: http://www.silabs.com/Support%20Documents/TechnicalDocs/SL23EP04.pdf
footprint SLAB-SOIC-8_N (SOIC, 8-Leads, Body 5x4mm, Pitch 1.27mm, IPC Medium Density)
footprint SLAB-SOIC-8_L (SOIC, 8-Leads, Body 5x4mm, Pitch 1.27mm, IPC High Density)
footprint SLAB-SOIC-8_M (SOIC, 8-Leads, Body 5x4mm, Pitch 1.27mm, IPC Low Density)
pins: 1 CLKIN (in) "Reference Frequency Clock Input. Weak pull-down.", 2 CLK2 (hiz) "Buffered Clock Output Weak pull-down.", 3 CLK1 (hiz) "Buffered Clock Output. Weak pull-down.", 4 GND (power) "Power Ground.", 5 CLK3 (hiz) "Buffered Clock Output. Weak pull-down.", 6 VDD (power), 7 CLK4 (hiz) "Buffered Clock Output. Weak pull-down.", 8 CLKOUT (hiz) "Buffered Clock Output, Used for Internal Feedback to PLL Input. Weak pull-down."

## SL2305SC-1T
designator U?
Low Jitter and Skew Zero Delay Buffer (ZDB), 10 to 140 MHz, 0 to 70 degC, 8-pin SOIC, Tape and Reel; Manufacturer: Silicon Labs; PartNumber: SL2305SC-1T; Output Format: LVCMOS; Sub-Family: Clock Buffers; DatasheetVersion: Rev. 2.1; PackageReference: SOIC-8; PackageDescription: 8-Pin Small-Outline Integrated Circuit, Body 4.9 x 3.9 mm, Pitch 1.27 mm; Supplier 1: Digi-Key; Supplier Part Number 1: SL2305SC-1T-ND; Supplier 2: Mouser; Supplier Part Number 2: 634-SL2305SC-1T; Frequency (MHz): 10 to 140; Packing: Tape and Reel; Mounting Technology: Surface Mount; ComponentLink1Description: Manufacturer URL; ComponentLink1URL: http://www.silabs.com/; ComponentLink2Description: Datasheet; ComponentLink2URL: http://www.silabs.com/Support%20Documents/TechnicalDocs/SL2305.pdf; ComponentLink3Description: Package Specification; ComponentLink3URL: http://www.silabs.com/Support%20Documents/TechnicalDocs/SL23EP04.pdf
footprint SLAB-SOIC-8_N (SOIC, 8-Leads, Body 5x4mm, Pitch 1.27mm, IPC Medium Density)
footprint SLAB-SOIC-8_L (SOIC, 8-Leads, Body 5x4mm, Pitch 1.27mm, IPC High Density)
footprint SLAB-SOIC-8_M (SOIC, 8-Leads, Body 5x4mm, Pitch 1.27mm, IPC Low Density)
pins: 1 CLKIN (in) "Reference Frequency Clock Input. Weak pull-down.", 2 CLK2 (hiz) "Buffered Clock Output Weak pull-down.", 3 CLK1 (hiz) "Buffered Clock Output. Weak pull-down.", 4 GND (power) "Power Ground.", 5 CLK3 (hiz) "Buffered Clock Output. Weak pull-down.", 6 VDD (power), 7 CLK4 (hiz) "Buffered Clock Output. Weak pull-down.", 8 CLKOUT (hiz) "Buffered Clock Output, Used for Internal Feedback to PLL Input. Weak pull-down."

## SL2305SI-1
designator U?
Low Jitter and Skew Zero Delay Buffer (ZDB), 10 to 140 MHz, -40 to 85 degC, 8-pin SOIC, Tube; Manufacturer: Silicon Labs; PartNumber: SL2305SI-1; Output Format: LVCMOS; Sub-Family: Clock Buffers; DatasheetVersion: Rev. 2.1; PackageReference: SOIC-8; PackageDescription: 8-Pin Small-Outline Integrated Circuit, Body 4.9 x 3.9 mm, Pitch 1.27 mm; Supplier 1: Digi-Key; Supplier Part Number 1: SL2305SI-1-ND; Supplier 2: Mouser; Supplier Part Number 2: 634-SL2305SI-1; Frequency (MHz): 10 to 140; Packing: Tube; Mounting Technology: Surface Mount; ComponentLink1Description: Manufacturer URL; ComponentLink1URL: http://www.silabs.com/; ComponentLink2Description: Datasheet; ComponentLink2URL: http://www.silabs.com/Support%20Documents/TechnicalDocs/SL2305.pdf; ComponentLink3Description: Package Specification; ComponentLink3URL: http://www.silabs.com/Support%20Documents/TechnicalDocs/SL23EP04.pdf
footprint SLAB-SOIC-8_N (SOIC, 8-Leads, Body 5x4mm, Pitch 1.27mm, IPC Medium Density)
footprint SLAB-SOIC-8_L (SOIC, 8-Leads, Body 5x4mm, Pitch 1.27mm, IPC High Density)
footprint SLAB-SOIC-8_M (SOIC, 8-Leads, Body 5x4mm, Pitch 1.27mm, IPC Low Density)
pins: 1 CLKIN (in) "Reference Frequency Clock Input. Weak pull-down.", 2 CLK2 (hiz) "Buffered Clock Output Weak pull-down.", 3 CLK1 (hiz) "Buffered Clock Output. Weak pull-down.", 4 GND (power) "Power Ground.", 5 CLK3 (hiz) "Buffered Clock Output. Weak pull-down.", 6 VDD (power), 7 CLK4 (hiz) "Buffered Clock Output. Weak pull-down.", 8 CLKOUT (hiz) "Buffered Clock Output, Used for Internal Feedback to PLL Input. Weak pull-down."

## SL2305SI-1H
designator U?
Low Jitter and Skew Zero Delay Buffer (ZDB), 10 to 140 MHz, -40 to 85 degC, 8-pin SOIC, Tube; Manufacturer: Silicon Labs; PartNumber: SL2305SI-1H; Output Format: LVCMOS; Sub-Family: Clock Buffers; DatasheetVersion: Rev. 2.1; PackageReference: SOIC-8; PackageDescription: 8-Pin Small-Outline Integrated Circuit, Body 4.9 x 3.9 mm, Pitch 1.27 mm; Supplier 1: Digi-Key; Supplier Part Number 1: SL2305SI-1H-ND; Supplier 2: Mouser; Supplier Part Number 2: 634-SL2305SI-1H; Frequency (MHz): 10 to 140; Packing: Tube; Mounting Technology: Surface Mount; ComponentLink1Description: Manufacturer URL; ComponentLink1URL: http://www.silabs.com/; ComponentLink2Description: Datasheet; ComponentLink2URL: http://www.silabs.com/Support%20Documents/TechnicalDocs/SL2305.pdf; ComponentLink3Description: Package Specification; ComponentLink3URL: http://www.silabs.com/Support%20Documents/TechnicalDocs/SL23EP04.pdf
footprint SLAB-SOIC-8_N (SOIC, 8-Leads, Body 5x4mm, Pitch 1.27mm, IPC Medium Density)
footprint SLAB-SOIC-8_L (SOIC, 8-Leads, Body 5x4mm, Pitch 1.27mm, IPC High Density)
footprint SLAB-SOIC-8_M (SOIC, 8-Leads, Body 5x4mm, Pitch 1.27mm, IPC Low Density)
pins: 1 CLKIN (in) "Reference Frequency Clock Input. Weak pull-down.", 2 CLK2 (hiz) "Buffered Clock Output Weak pull-down.", 3 CLK1 (hiz) "Buffered Clock Output. Weak pull-down.", 4 GND (power) "Power Ground.", 5 CLK3 (hiz) "Buffered Clock Output. Weak pull-down.", 6 VDD (power), 7 CLK4 (hiz) "Buffered Clock Output. Weak pull-down.", 8 CLKOUT (hiz) "Buffered Clock Output, Used for Internal Feedback to PLL Input. Weak pull-down."

## SL2305SI-1HT
designator U?
Low Jitter and Skew Zero Delay Buffer (ZDB), 10 to 140 MHz, -40 to 85 degC, 8-pin SOIC, Tape and Reel; Manufacturer: Silicon Labs; PartNumber: SL2305SI-1HT; Output Format: LVCMOS; Sub-Family: Clock Buffers; DatasheetVersion: Rev. 2.1; PackageReference: SOIC-8; PackageDescription: 8-Pin Small-Outline Integrated Circuit, Body 4.9 x 3.9 mm, Pitch 1.27 mm; Supplier 1: Digi-Key; Supplier Part Number 1: SL2305SI-1HT-ND; Supplier 2: Mouser; Supplier Part Number 2: 634-SL2305SI-1HT; Frequency (MHz): 10 to 140; Packing: Tape and Reel; Mounting Technology: Surface Mount; ComponentLink1Description: Manufacturer URL; ComponentLink1URL: http://www.silabs.com/; ComponentLink2Description: Datasheet; ComponentLink2URL: http://www.silabs.com/Support%20Documents/TechnicalDocs/SL2305.pdf; ComponentLink3Description: Package Specification; ComponentLink3URL: http://www.silabs.com/Support%20Documents/TechnicalDocs/SL23EP04.pdf
footprint SLAB-SOIC-8_N (SOIC, 8-Leads, Body 5x4mm, Pitch 1.27mm, IPC Medium Density)
footprint SLAB-SOIC-8_L (SOIC, 8-Leads, Body 5x4mm, Pitch 1.27mm, IPC High Density)
footprint SLAB-SOIC-8_M (SOIC, 8-Leads, Body 5x4mm, Pitch 1.27mm, IPC Low Density)
pins: 1 CLKIN (in) "Reference Frequency Clock Input. Weak pull-down.", 2 CLK2 (hiz) "Buffered Clock Output Weak pull-down.", 3 CLK1 (hiz) "Buffered Clock Output. Weak pull-down.", 4 GND (power) "Power Ground.", 5 CLK3 (hiz) "Buffered Clock Output. Weak pull-down.", 6 VDD (power), 7 CLK4 (hiz) "Buffered Clock Output. Weak pull-down.", 8 CLKOUT (hiz) "Buffered Clock Output, Used for Internal Feedback to PLL Input. Weak pull-down."

## SL2305SI-1T
designator U?
Low Jitter and Skew Zero Delay Buffer (ZDB), 10 to 140 MHz, -40 to 85 degC, 8-pin SOIC, Tape and Reel; Manufacturer: Silicon Labs; PartNumber: SL2305SI-1T; Output Format: LVCMOS; Sub-Family: Clock Buffers; DatasheetVersion: Rev. 2.1; PackageReference: SOIC-8; PackageDescription: 8-Pin Small-Outline Integrated Circuit, Body 4.9 x 3.9 mm, Pitch 1.27 mm; Supplier 1: Digi-Key; Supplier Part Number 1: SL2305SI-1T-ND; Supplier 2: Mouser; Supplier Part Number 2: 634-SL2305SI-1T; Frequency (MHz): 10 to 140; Packing: Tape and Reel; Mounting Technology: Surface Mount; ComponentLink1Description: Manufacturer URL; ComponentLink1URL: http://www.silabs.com/; ComponentLink2Description: Datasheet; ComponentLink2URL: http://www.silabs.com/Support%20Documents/TechnicalDocs/SL2305.pdf; ComponentLink3Description: Package Specification; ComponentLink3URL: http://www.silabs.com/Support%20Documents/TechnicalDocs/SL23EP04.pdf
footprint SLAB-SOIC-8_N (SOIC, 8-Leads, Body 5x4mm, Pitch 1.27mm, IPC Medium Density)
footprint SLAB-SOIC-8_L (SOIC, 8-Leads, Body 5x4mm, Pitch 1.27mm, IPC High Density)
footprint SLAB-SOIC-8_M (SOIC, 8-Leads, Body 5x4mm, Pitch 1.27mm, IPC Low Density)
pins: 1 CLKIN (in) "Reference Frequency Clock Input. Weak pull-down.", 2 CLK2 (hiz) "Buffered Clock Output Weak pull-down.", 3 CLK1 (hiz) "Buffered Clock Output. Weak pull-down.", 4 GND (power) "Power Ground.", 5 CLK3 (hiz) "Buffered Clock Output. Weak pull-down.", 6 VDD (power), 7 CLK4 (hiz) "Buffered Clock Output. Weak pull-down.", 8 CLKOUT (hiz) "Buffered Clock Output, Used for Internal Feedback to PLL Input. Weak pull-down."

## SL2305ZC-1
designator U?
Low Jitter and Skew Zero Delay Buffer (ZDB), 10 to 140 MHz, 0 to 70 degC, 8-pin SOP, Tube; Manufacturer: Silicon Labs; PartNumber: SL2305ZC-1; Output Format: LVCMOS; Sub-Family: Clock Buffers; DatasheetVersion: Rev. 2.1; PackageReference: TSSOP-8; PackageDescription: 8-Pin Thin Shrink Small-Outline Package, Body 4.4 x 3 mm, Pitch 0.65 mm; Supplier 1: Digi-Key; Supplier Part Number 1: SL2305ZC-1-ND; Supplier 2: Mouser; Supplier Part Number 2: 634-SL2305ZC-1; Frequency (MHz): 10 to 140; Packing: Tube; Mounting Technology: Surface Mount; ComponentLink1Description: Manufacturer URL; ComponentLink1URL: http://www.silabs.com/; ComponentLink2Description: Datasheet; ComponentLink2URL: http://www.silabs.com/Support%20Documents/TechnicalDocs/SL2305.pdf; ComponentLink3Description: Package Specification; ComponentLink3URL: http://www.silabs.com/Support%20Documents/TechnicalDocs/SL2305.pdf
footprint SLAB-TSSOP-8_A_N (SOP, 8-Leads, Body 4.5x3.1mm, Pitch 0.65mm, IPC Medium Density)
footprint SLAB-TSSOP-8_A_L (SOP, 8-Leads, Body 4.5x3.1mm, Pitch 0.65mm, IPC High Density)
footprint SLAB-TSSOP-8_A_M (SOP, 8-Leads, Body 4.5x3.1mm, Pitch 0.65mm, IPC Low Density)
pins: 1 CLKIN (in) "Reference Frequency Clock Input. Weak pull-down.", 2 CLK2 (hiz) "Buffered Clock Output Weak pull-down.", 3 CLK1 (hiz) "Buffered Clock Output. Weak pull-down.", 4 GND (power) "Power Ground.", 5 CLK3 (hiz) "Buffered Clock Output. Weak pull-down.", 6 VDD (power), 7 CLK4 (hiz) "Buffered Clock Output. Weak pull-down.", 8 CLKOUT (hiz) "Buffered Clock Output, Used for Internal Feedback to PLL Input. Weak pull-down."

## SL2305ZC-1H
designator U?
Low Jitter and Skew Zero Delay Buffer (ZDB), 10 to 140 MHz, 0 to 70 degC, 8-pin SOP, Tube; Manufacturer: Silicon Labs; PartNumber: SL2305ZC-1H; Output Format: LVCMOS; Sub-Family: Clock Buffers; DatasheetVersion: Rev. 2.1; PackageReference: TSSOP-8; PackageDescription: 8-Pin Thin Shrink Small-Outline Package, Body 4.4 x 3 mm, Pitch 0.65 mm; Supplier 1: Digi-Key; Supplier Part Number 1: SL2305ZC-1H-ND; Supplier 2: Mouser; Supplier Part Number 2: 634-SL2305ZC-1H; Frequency (MHz): 10 to 140; Packing: Tube; Mounting Technology: Surface Mount; ComponentLink1Description: Manufacturer URL; ComponentLink1URL: http://www.silabs.com/; ComponentLink2Description: Datasheet; ComponentLink2URL: http://www.silabs.com/Support%20Documents/TechnicalDocs/SL2305.pdf; ComponentLink3Description: Package Specification; ComponentLink3URL: http://www.silabs.com/Support%20Documents/TechnicalDocs/SL2305.pdf
footprint SLAB-TSSOP-8_A_N (SOP, 8-Leads, Body 4.5x3.1mm, Pitch 0.65mm, IPC Medium Density)
footprint SLAB-TSSOP-8_A_L (SOP, 8-Leads, Body 4.5x3.1mm, Pitch 0.65mm, IPC High Density)
footprint SLAB-TSSOP-8_A_M (SOP, 8-Leads, Body 4.5x3.1mm, Pitch 0.65mm, IPC Low Density)
pins: 1 CLKIN (in) "Reference Frequency Clock Input. Weak pull-down.", 2 CLK2 (hiz) "Buffered Clock Output Weak pull-down.", 3 CLK1 (hiz) "Buffered Clock Output. Weak pull-down.", 4 GND (power) "Power Ground.", 5 CLK3 (hiz) "Buffered Clock Output. Weak pull-down.", 6 VDD (power), 7 CLK4 (hiz) "Buffered Clock Output. Weak pull-down.", 8 CLKOUT (hiz) "Buffered Clock Output, Used for Internal Feedback to PLL Input. Weak pull-down."

## SL2305ZC-1HT
designator U?
Low Jitter and Skew Zero Delay Buffer (ZDB), 10 to 140 MHz, 0 to 70 degC, 8-pin SOP, Tape and Reel; Manufacturer: Silicon Labs; PartNumber: SL2305ZC-1HT; Output Format: LVCMOS; Sub-Family: Clock Buffers; DatasheetVersion: Rev. 2.1; PackageReference: TSSOP-8; PackageDescription: 8-Pin Thin Shrink Small-Outline Package, Body 4.4 x 3 mm, Pitch 0.65 mm; Supplier 1: Digi-Key; Supplier Part Number 1: SL2305ZC-1HT-ND; Supplier 2: Mouser; Supplier Part Number 2: 634-SL2305ZC-1HT; Frequency (MHz): 10 to 140; Packing: Tape and Reel; Mounting Technology: Surface Mount; ComponentLink1Description: Manufacturer URL; ComponentLink1URL: http://www.silabs.com/; ComponentLink2Description: Datasheet; ComponentLink2URL: http://www.silabs.com/Support%20Documents/TechnicalDocs/SL2305.pdf; ComponentLink3Description: Package Specification; ComponentLink3URL: http://www.silabs.com/Support%20Documents/TechnicalDocs/SL2305.pdf
footprint SLAB-TSSOP-8_A_N (SOP, 8-Leads, Body 4.5x3.1mm, Pitch 0.65mm, IPC Medium Density)
footprint SLAB-TSSOP-8_A_L (SOP, 8-Leads, Body 4.5x3.1mm, Pitch 0.65mm, IPC High Density)
footprint SLAB-TSSOP-8_A_M (SOP, 8-Leads, Body 4.5x3.1mm, Pitch 0.65mm, IPC Low Density)
pins: 1 CLKIN (in) "Reference Frequency Clock Input. Weak pull-down.", 2 CLK2 (hiz) "Buffered Clock Output Weak pull-down.", 3 CLK1 (hiz) "Buffered Clock Output. Weak pull-down.", 4 GND (power) "Power Ground.", 5 CLK3 (hiz) "Buffered Clock Output. Weak pull-down.", 6 VDD (power), 7 CLK4 (hiz) "Buffered Clock Output. Weak pull-down.", 8 CLKOUT (hiz) "Buffered Clock Output, Used for Internal Feedback to PLL Input. Weak pull-down."